# Altium schematic symbol library RN52-IRM116.SchLib: 1 symbol
Pins are listed as number, name and electrical type; pins without a type are passive.

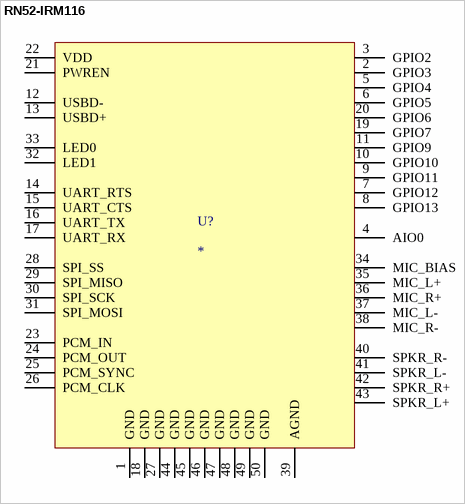
[diagram p0: symbol RN52-IRM116]

## RN52-IRM116
designator U?
pins: 1 GND, 2 GPIO3, 3 GPIO2, 4 AIO0, 5 GPIO4, 6 GPIO5, 7 GPIO12, 8 GPIO13, 9 GPIO11, 10 GPIO10, 11 GPIO9, 12 USBD-, 13 USBD+, 14 UART_RTS, 15 UART_CTS, 16 UART_TX, 17 UART_RX, 18 GND, 19 GPIO7, 20 GPIO6, 21 PWREN, 22 VDD, 23 PCM_IN, 24 PCM_OUT, 25 PCM_SYNC, 26 PCM_CLK, 27 GND, 28 SPI_SS, 29 SPI_MISO, 30 SPI_SCK, 31 SPI_MOSI, 32 LED1, 33 LED0, 34 MIC_BIAS, 35 MIC_L+, 36 MIC_R+, 37 MIC_L-, 38 MIC_R-, 39 AGND, 40 SPKR_R-, 41 SPKR_L-, 42 SPKR_R+, 43 SPKR_L+, 44 GND, 45 GND, 46 GND, 47 GND, 48 GND, 49 GND, 50 GND